# EAGLE library part MOTORDRIVER (library Sumobot)
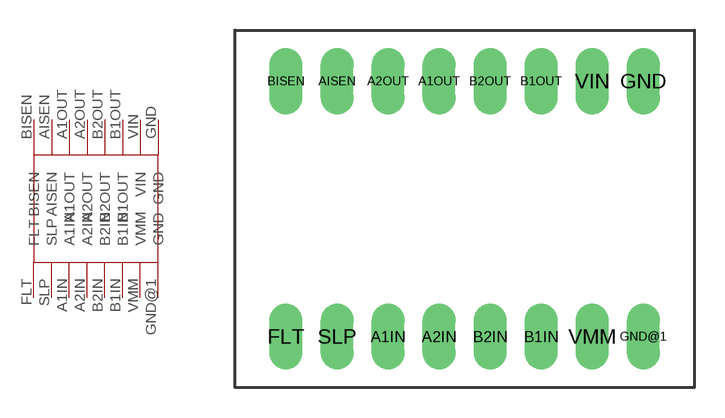
[diagram p1: symbol with the pads of MOTORDRIVER; footprint MOTORDRIVER]

Designator prefix -

## MOTORDRIVER  [MOTORDRIVER]
A1IN  A1IN
A1OUT  A1OUT
A2IN  A2IN
A2OUT  A2OUT
AISEN  AISEN
B1IN  B1IN
B1OUT  B1OUT
B2IN  B2IN
B2OUT  B2OUT
BISEN  BISEN
FLT  FLT
GND  GND
GND@1  GND
SLP  SLP
VIN  VIN
VMM  VMM

## Footprint MOTORDRIVER (pad centres in mm)
drill 1.016 pad 1.651 long: A1IN -5.08,-7.62; A1OUT -2.54,5.08; A2IN -2.54,-7.62; A2OUT -5.08,5.08; AISEN -7.62,5.08; B1IN 2.54,-7.62; B1OUT 2.54,5.08; B2IN 0,-7.62; B2OUT 0,5.08; BISEN -10.16,5.08; FLT -10.16,-7.62; GND 7.62,5.08; GND@1 7.62,-7.62; SLP -7.62,-7.62; VIN 5.08,5.08; VMM 5.08,-7.62